# EAGLE library part LMK1C1102PWR (library LMK1C1102PWR)
Clock Buffer 2-channel output LVCMOS 1.8-V buffer 8-TSSOP -40 to 125 Source: Datasheet <https://www.ti.com/lit/gpn/LMK1C1102>
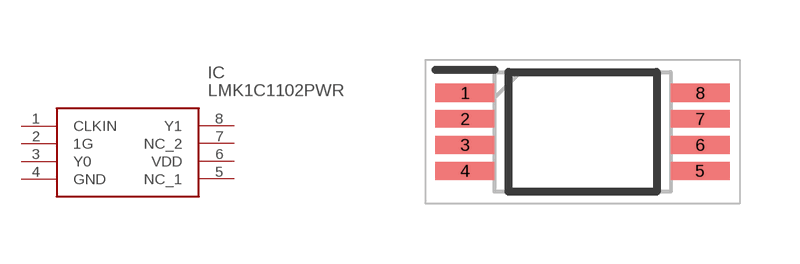
[diagram p0: symbol with the pads of SOP65P640X120-8N; footprint SOP65P640X120-8N]

Designator prefix IC

## LMK1C1102PWR (Arrow_Part_Number: LMK1C1102PWR; Arrow_Price-Stock: https://www.arrow.com/en/products/lmk1c1102pwr/texas-instruments?utm_currency=USD&region=nac; Description: Clock Buffer 2-channel output LVCMOS 1.8-V buffer 8-TSSOP -40 to 125; Height: 1.2mm; Manufacturer_Name: Texas Instruments; Manufacturer_Part_Number: LMK1C1102PWR; Mouser_Part_Number: 595-LMK1C1102PWR; Mouser_Price-Stock: https://www.mouser.co.uk/ProductDetail/Texas-Instruments/LMK1C1102PWR?qs=rI7uf1IzohQAH976VttrBg%3D%3D)  [SOP65P640X120-8N]
1  CLKIN
2  1G
3  Y0
4  GND
5  NC_1
6  VDD
7  NC_2
8  Y1

## Footprint SOP65P640X120-8N (pad centres in mm)
PW0008A_a
smd 1.475 x 0.45: 1 -2.938,0.975; 2 -2.938,0.325; 3 -2.938,-0.325; 4 -2.938,-0.975; 5 2.938,-0.975; 6 2.938,-0.325; 7 2.938,0.325; 8 2.938,0.975